# EAGLE library part LT3083 (library nervus)
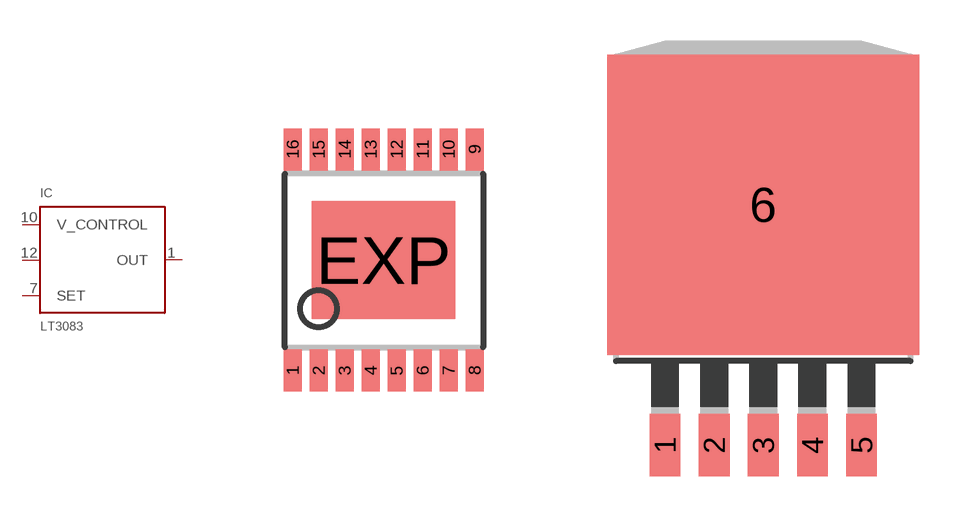
[diagram p2: symbol with the pads of TSSOP16EXP; footprints TSSOP16EXP, DDPAK_TO263-5]

Designator prefix IC

## LT3083EFE  [TSSOP16EXP]
1  OUT  pwr
2  OUT
3  OUT
4  OUT
5  OUT
6  OUT
7  SET  pwr
8  OUT
9  OUT
10  V_CONTROL
11  V_CONTROL  pwr
12  IN  pwr
13  IN
14  IN
15  IN
16  OUT
EXP  OUT

## LT3083EQ  [DDPAK_TO263-5]
2  SET  pwr
3  OUT  pwr
4  V_CONTROL
4  V_CONTROL  pwr
5  IN  pwr
5  IN
5  IN
5  IN
6  OUT
6  OUT
6  OUT
6  OUT
6  OUT
6  OUT
6  OUT
6  OUT
6  OUT

## Footprint TSSOP16EXP (pad centres in mm)
16-Lead Plastic TSSOP (4.4mm) EXPOSED PAD http://cds.linear.com/docs/Datasheet/1963fc.pdf
smd 0.45 x 1.05: 1 -2.275,-2.768; 2 -1.625,-2.768; 3 -0.975,-2.768; 4 -0.325,-2.768; 5 0.325,-2.768; 6 0.975,-2.768; 7 1.625,-2.768; 8 2.275,-2.768; 9 2.275,2.768; 10 1.625,2.768; 11 0.975,2.768; 12 0.325,2.768; 13 -0.325,2.768; 14 -0.975,2.768; 15 -1.625,2.768; 16 -2.275,2.768
smd 3.58 x 2.94: EXP 0,0

## Footprint DDPAK_TO263-5 (pad centres in mm)
TO-263
smd 1.067 x 2.159: 1 -3.404,-5.791; 2 -1.702,-5.791; 3 0,-5.791; 4 1.702,-5.791; 5 3.404,-5.791
smd 10.8 x 10.41: 6 0,2.54